# Altium footprint library SFW15R-1STE1LF.PcbLib: 1 footprints
Each footprint in its own frame and in the unit in brackets; x right, y up, seen from the top. Pads: shape width x height; smd on the part's side, far side on the other; paste and mask are expansions set on the pad; w line width, h text height; cw(c..) or ccw(c..) is an arc to the next point about the centre after c.
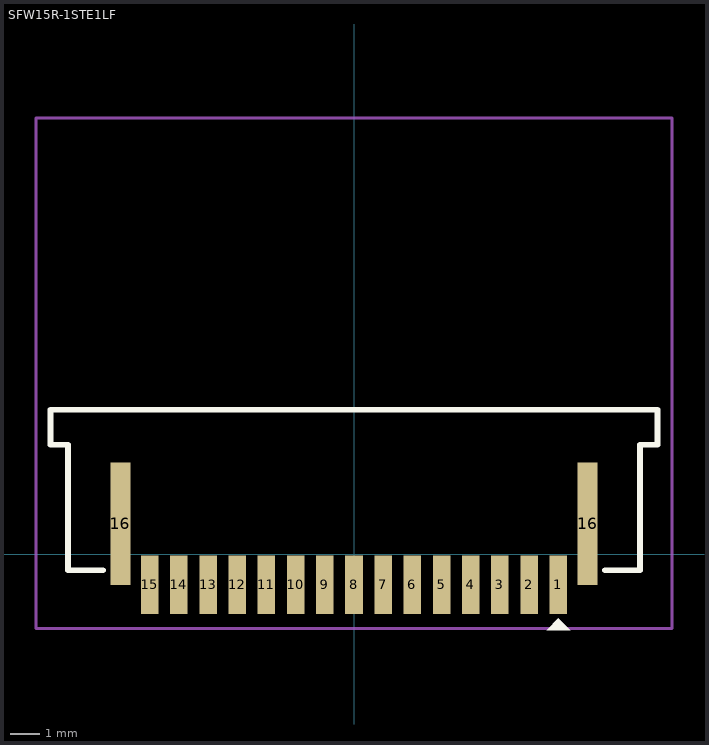
[diagram p0: the footprint, top view; thin cyan lines are the x and y axes]

## SFW15R-1STE1LF [mm]
pads (17):
  rect 0.6x2 smd: 1(7,-1.05) 2(6,-1.05) 3(5,-1.05) 4(4,-1.05) 5(3,-1.05) 6(2,-1.05) 7(1,-1.05) 8(0,-1.05) 9(-1,-1.05) 10(-2,-1.05) 11(-3,-1.05) 12(-4,-1.05) 13(-5,-1.05) 14(-6,-1.05) 15(-7,-1.05)
  rect 0.7x4.2 smd: 16(-8,1.05) 16(8,1.05)
Top Overlay:
  region: 7.4,-2.6 6.6,-2.6 7,-2.2
  lines w0.2: -8.6,-0.55 -9.8,-0.55 -9.8,3.75 -10.4,3.75 -10.4,4.95 10.4,4.95 10.4,3.75 9.8,3.75 9.8,-0.55 8.6,-0.55
Top Courtyard:
  lines w0.1: -10.9,-2.55 -10.9,14.95 10.9,14.95 10.9,-2.55 -10.9,-2.55
3D body "SFW15R-1STE1LF--3DModel-STEP-510211.STEP": height 2.7, standoff 0, extent -10.4,-1.55 10.4,4.95